# Altium schematic symbol library Schlib1.SchLib: 2 symbols
Pins are listed as number, name and electrical type; pins without a type are passive.

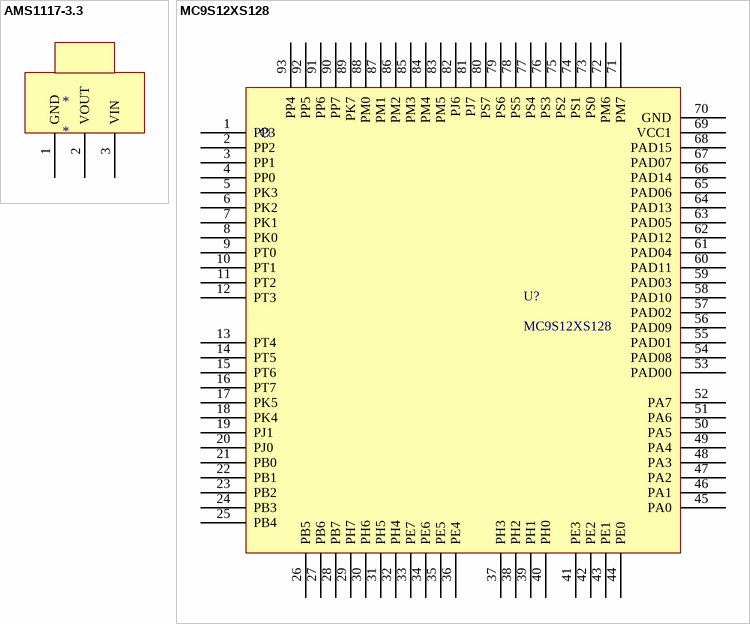
[diagram p0: symbols AMS1117-3.3 to MC9S12XS128]

## AMS1117-3.3
designator *
pins: 1 GND, 2 VOUT, 3 VIN

## MC9S12XS128
designator U?
pins: 1 PP3, 2 PP2, 3 PP1, 4 PP0, 5 PK3, 6 PK2, 7 PK1, 8 PK0, 9 PT0, 10 PT1, 11 PT2, 12 PT3, 13 PT4, 14 PT5, 15 PT6, 16 PT7, 17 PK5, 18 PK4, 19 PJ1, 20 PJ0, 21 PB0, 22 PB1, 23 PB2, 24 PB3, 25 PB4, 26 PB5, 27 PB6, 28 PB7, 29 PH7, 30 PH6, 31 PH5, 32 PH4, 33 PE7, 34 PE6, 35 PE5, 36 PE4, 37 PH3, 38 PH2, 39 PH1, 40 PH0, 41 PE3, 42 PE2, 43 PE1, 44 PE0, 45 PA0, 46 PA1, 47 PA2, 48 PA3, 49 PA4, 50 PA5, 51 PA6, 52 PA7, 53 PAD00, 54 PAD08, 55 PAD01, 56 PAD09, 57 PAD02, 58 PAD10, 59 PAD03, 60 PAD11, 61 PAD04, 62 PAD12, 63 PAD05, 64 PAD13, 65 PAD06, 66 PAD14, 67 PAD07, 68 PAD15, 69 VCC1, 70 GND, 71 PM7, 72 PM6, 73 PS0, 74 PS1, 75 PS2, 76 PS3, 77 PS4, 78 PS5, 79 PS6, 80 PS7, 81 PJ7, 82 PJ6, 83 PM5, 84 PM4, 85 PM3, 86 PM2, 87 PM1, 88 PM0, 89 PK7, 90 PP7, 91 PP6, 92 PP5, 93 PP4